# Altium footprint library Audio_Inputjack.PcbLib: 1 footprints
Each footprint in its own frame and in the unit in brackets; x right, y up, seen from the top. Pads: shape width x height; smd on the part's side, far side on the other; paste and mask are expansions set on the pad; w line width, h text height; cw(c..) or ccw(c..) is an arc to the next point about the centre after c.
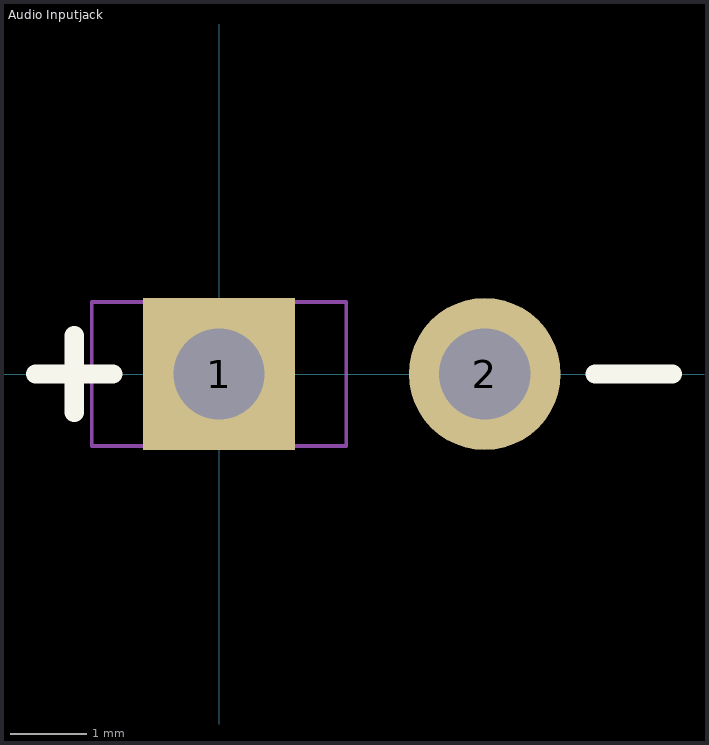
[diagram p0: the footprint, top view; thin cyan lines are the x and y axes]

## Audio Inputjack [mm]
pads (2):
  rect 2x2 hole 1.2: 1(0,0)
  round 2 hole 1.2: 2(3.5,0)
Top Overlay:
  lines w0.254: -2.413,0 -1.397,0 ; -1.905,-0.508 -1.905,0.508 ; 4.953,0 5.969,0
  text ".Designator" at -2.794,1.651 h1.52
Mechanical 20:
  lines w0.05: -1.675,-0.95 -1.675,0.95 1.675,0.95 1.675,-0.95 -1.675,-0.95